# Altium footprint library PPPC042LFBN-RC-NRF24L01.PcbLib: 1 footprints
Each footprint in its own frame and in the unit in brackets; x right, y up, seen from the top. Pads: shape width x height; smd on the part's side, far side on the other; paste and mask are expansions set on the pad; w line width, h text height; cw(c..) or ccw(c..) is an arc to the next point about the centre after c.
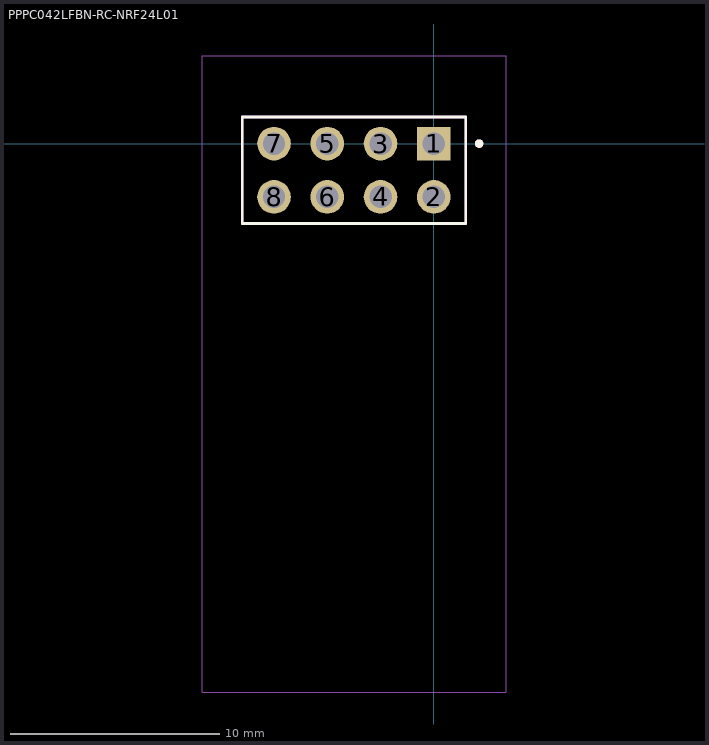
[diagram p0: the footprint, top view; thin cyan lines are the x and y axes]

## PPPC042LFBN-RC-NRF24L01 [mm]
height 8.5
pads (8):
  rect 1.605x1.605 hole 1.07: 1(0,0)
  round 1.605 hole 1.07: 2(0,-2.54) 3(-2.54,0) 4(-2.54,-2.54) 5(-5.08,0) 6(-5.08,-2.54) 7(-7.62,0) 8(-7.62,-2.54)
Top Overlay:
  circle w0.2: c2.159,0 r0.1
  lines w0.127: -9.14,-3.81 1.52,-3.81 1.52,1.27 -9.14,1.27 -9.14,-3.81
Mechanical 13:
  circle w0.2: c2.159,0 r0.1
  lines w0.127: -9.14,-3.81 1.52,-3.81 1.52,1.27 -9.14,1.27 -9.14,-3.81
Mechanical 15:
  lines w0.05: -11.041,-26.162 3.429,-26.162 3.429,4.187 -11.041,4.187 -11.041,-26.162
3D body "step_temp.STEP": height 8.51, standoff -3.4, extent -9.144,-3.81 1.524,1.27
3D body: height 10.54, standoff 8.53, extent -11.049,-26.162 3.429,4.191